# EAGLE library part TELEPHONE_JACK (library TEABOX-LIB)
AMP connector
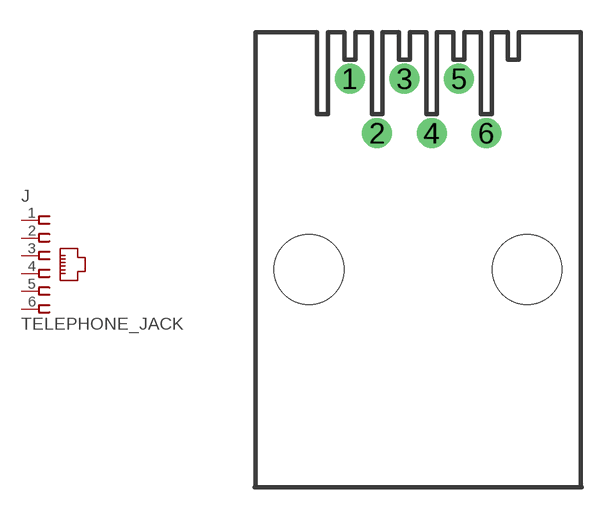
[diagram p20: symbol with the pads of TELEPHONE_JACK; footprint TELEPHONE_JACK]

Designator prefix J

## TELEPHONE_JACK  [TELEPHONE_JACK]
1  1  pas
2  2  pas
3  3  pas
4  4  pas
5  5  pas
6  6  pas

## Footprint TELEPHONE_JACK (pad centres in mm)
Modular Jack with Flanged
drill 0.889 round: 1 -3.175,8.89; 2 -1.905,6.35; 3 -0.635,8.89; 4 0.635,6.35; 5 1.905,8.89; 6 3.175,6.35
hole 3.251 at -5.08,0
hole 3.251 at 5.08,0